# Altium schematic symbol library project.SchLib: 16 symbols
Pins are listed as number, name and electrical type; pins without a type are passive.

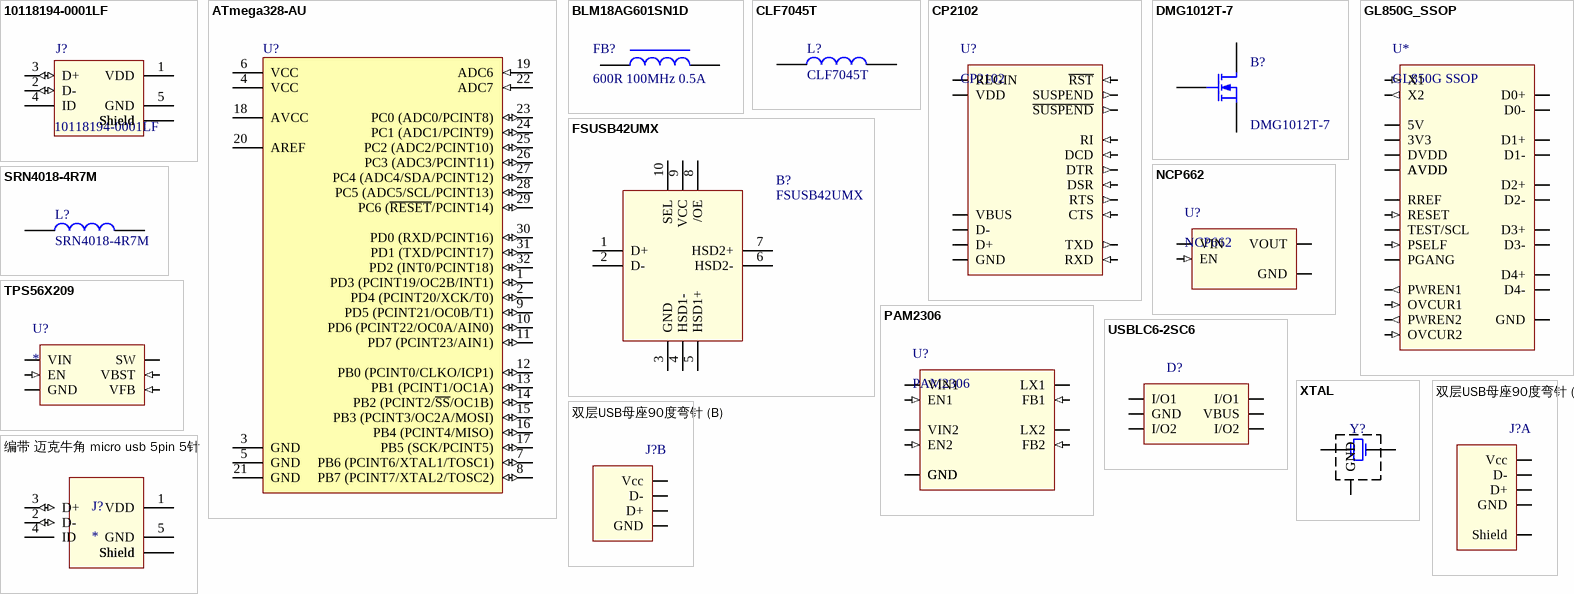
[diagram p0: symbols 10118194-0001LF to 编带 迈克牛角 micro usb 5pin 5针]

## 10118194-0001LF
designator J?
Conn Micro USB Type B RCP 5 POS 0.65mm Solder RA SMD 5 Terminal 1 Port T/R; MF: FCI; RS: 714-2347; Availability: Good; Price: 0.23 USD; MP: 10118194-0001LF; Package: DIP-4 FCI; Value: *
footprint 10103594-0001LF (Amphenol FCI Right Angle SMT Type B Version 2.0 Micro USB Connector Socket, 100 V ac, 1.8A)
pins: 1 VDD (power), 2 D- (io), 3 D+ (io), 4 ID, 5 GND (power), 6 Shield (power), 7 Shield (power), 8 Shield (power), 9 Shield (power)

## ATmega328-AU
designator U?
8-bit AVR Microcontroller, 32KB Flash, 1KB EEPROM, 2KB SRAM, 32-pin TQFP, Industrial Grade (-40°C to 85°C); Published: 1-Apr-2010; DatasheetVersion: revA, Jan-2010; PackageVersion: revB, Oct-2001; PackageReference: 32A; Publisher: Altium Limited; PackageDescription: 32-Lead, 7x7x1.0 mm Body, 0.8mm Lead Pitch, Thin Profile Plastic Quad Flat Package (TQFP); Supplier 1: Digi-Key; Supplier Part Number 1: ATMEGA328-AU-ND; Supplier 2: Mouser; Supplier Part Number 2: 556-ATMEGA328-AU; Code_JEDEC: MS-026-ABA; ComponentLink1Description: Manufacturer Link; ComponentLink1URL: http://www.atmel.com/products/avr/default.asp?; ComponentLink2Description: ATmega48A/48PA/88A/88PA/168A/168PA/328/328P Datasheet; ComponentLink2URL: http://www.atmel.com/dyn/resources/prod_documents/8271.pdf; ComponentLink3Description: ATmega48A/48PA/88A/88PA/168A/168PA/328/328P Summary; ComponentLink3URL: http://www.atmel.com/dyn/resources/prod_documents/8271S.pdf; ComponentLink4Description: Atmel.com Home; ComponentLink4URL: http://www.atmel.com
footprint 32A_N (Thin QFP, 32-Leads, Body 7x7mm, Pitch 0.8mm, IPC Medium Density)
footprint 32A_L (Thin QFP, 32-Leads, Body 7x7mm, Pitch 0.8mm, IPC High Density)
footprint 32A_M (Thin QFP, 32-Leads, Body 7x7mm, Pitch 0.8mm, IPC Low Density)
pins: 1 PD3 (PCINT19/OC2B/INT1) (io), 2 PD4 (PCINT20/XCK/T0) (io), 3 GND (power), 4 VCC (power), 5 GND (power), 6 VCC (power), 7 PB6 (PCINT6/XTAL1/TOSC1) (io), 8 PB7 (PCINT7/XTAL2/TOSC2) (io), 9 PD5 (PCINT21/OC0B/T1) (io), 10 PD6 (PCINT22/OC0A/AIN0) (io), 11 PD7 (PCINT23/AIN1) (io), 12 PB0 (PCINT0/CLKO/ICP1) (io), 13 PB1 (PCINT1/OC1A) (io), 14 PB2 (PCINT2/~{SS}/OC1B) (io), 15 PB3 (PCINT3/OC2A/MOSI) (io), 16 PB4 (PCINT4/MISO) (io), 17 PB5 (SCK/PCINT5) (io), 18 AVCC (power), 19 ADC6 (in), 20 AREF, 21 GND (power), 22 ADC7 (in), 23 PC0 (ADC0/PCINT8) (io), 24 PC1 (ADC1/PCINT9) (io), 25 PC2 (ADC2/PCINT10) (io), 26 PC3 (ADC3/PCINT11) (io), 27 PC4 (ADC4/SDA/PCINT12) (io), 28 PC5 (ADC5/SCL/PCINT13) (io), 29 PC6 (~{RESET}/PCINT14) (io), 30 PD0 (RXD/PCINT16) (io), 31 PD1 (TXD/PCINT17) (io), 32 PD2 (INT0/PCINT18) (io)

## BLM18AG601SN1D
designator FB?, comment 600R 100MHz 0.5A
Murata Ferrite Bead 600Ω impedance at 100 MHz; RS: 724-1299
footprint 1608[0603] (Chip Capacitor, Body 1.6x0.8mm, IPC High Density)
pins: 1, 2

## CLF7045T
designator L?
Shielded Wire-wound SMD Inductor with a Ferrite Core, 3.3 μH ±30% Wire-Wound 5A Idc; Manufacturer_Name: Bourns; Manufacturer_Part_Number: SRN4018-4R7M; Geometry.Height: mm; Supplier_Name: RS; RS Part Number: 792-4010; Allied_Number: *; Other Part Number: *; Datasheet Link: https://componentsearchengine.com/Datasheets/2/SRN4018-4R7M.pdf; 3D Package: *
footprint CLF7045T
pins: 1, 2

## CP2102
designator U?
footprint QFN-28
pins: 1 DCD (in), 2 RI (in), 3 GND (power), 4 D+ (io), 5 D- (io), 6 VDD (power), 7 REGIN (power), 8 VBUS (power), 9 ~{RST} (in), 11 ~{SUSPEND} (out), 12 SUSPEND (out), 23 CTS (in), 24 RTS (out), 25 RXD (in), 26 TXD (out), 27 DSR (in), 28 DTR (out)

## DMG1012T-7
designator B?
MOSFET N-Channel 20V 0.63A SOT523 Diodes Inc DMG1012T-7 N-channel MOSFET Transistor, 0.63 A, 20 V, 3-Pin SOT-523; Manufacturer_Name: Diodes Inc.; Geometry.Height: 0.8mm; Supplier_Name: RS; RS Part Number: 7514064; Manufacturer_Part_Number: DMG1012T-7; Allied_Number: *; Other Part Number: *; Datasheet Link: https://www.diodes.com/assets/Datasheets/ds31783.pdf; 3D Package: *
footprint SOT50P160X80-3N
pins: 1 G, 2 S, 3 D

## FSUSB42UMX
designator B?
IC, Fairchild, FSUSB42UMX Fairchild Semiconductor FSUSB42UMX, Analogue Switch Single DPDT 480Mbit/s, 3  4.4 V, 10-Pin UMLP; Geometry.Height: 0.55mm; Supplier_Name: RS; RS Part Number: 8076092; Manufacturer_Name: Fairchild Semiconductor; Manufacturer_Part_Number: FSUSB42UMX; Allied_Number: *; Other Part Number: *; Datasheet Link: https://www.fairchildsemi.com/datasheets/FS/FSUSB42.pdf; 3D Package: *
footprint QFN40P140X180X55-10N
pins: 1 D+, 2 D-, 3 GND, 4 HSD1-, 5 HSD1+, 6 HSD2-, 7 HSD2+, 8 /OE, 9 VCC, 10 SEL

## GL850G_SSOP
designator U*, comment GL850G SSOP
footprint SOP28
pins: 1 AVDD (power), 2 D2- (io), 3 D2+ (io), 4 RREF (io), 5 AVDD (power), 6 X1 (in), 7 X2 (out), 8 D3- (io), 9 D3+ (io), 10 AVDD (power), 11 D4- (io), 12 D4+ (io), 13 RESET (in) "5V Tolerant", 14 TEST/SCL (io), 15 GND (power), 16 DVDD (power), 17 PSELF (in) "5V Tolerant", 18 PGANG (io), 19 OVCUR2 (in) "5V Tolerant", 20 PWREN2 (out), 21 OVCUR1 (in) "5V Tolerant", 22 PWREN1 (out), 23 5V (power) "5V-to-3.3V regulator Vin", 24 3V3 (power) "5V-to-3.3V regulator Vout", 25 D0- (io), 26 D0+ (io), 27 D1- (io), 28 D1+ (io)

## NCP662
designator U?
footprint SRN4018
pins: 1 GND (power), 2 VIN (power), 3 VOUT (power), 4 EN (in)

## PAM2306
designator U?
footprint WDFN-12
pins: 1 VIN2 (power), 2 LX2 (power), 3 GND (power), 4 FB1 (in), 6 EN1 (in), 7 VIN1 (power), 8 LX1 (power), 9 GND (power), 10 FB2 (in), 12 EN2 (in), PAD GND (power)

## SRN4018-4R7M
designator L?
Inductor SMD 4x4 semi-shielded 4,7uH Bourns SRN4018 Series Shielded Wire-wound SMD Inductor with a Ferrite Core, 4.7 H 20% Wire-Wound 1.9A rms Idc; Geometry.Height: mm; Supplier_Name: RS; RS Part Number: 7729714; Manufacturer_Name: Bourns; Manufacturer_Part_Number: SRN4018-4R7M; Allied_Number: *; Other Part Number: *; Datasheet Link: https://componentsearchengine.com/Datasheets/2/SRN4018-4R7M.pdf; 3D Package: *
footprint SRN4018
pins: 1, 2

## TPS56X209
designator U?
4.5V to 17 V Input, 2-A, 3-A Synchronous Step-Down Voltage Regulator
footprint SOP6
pins: 1 GND (power), 2 SW (power), 3 VIN (power), 4 VFB (in), 5 EN (in), 6 VBST (in)

## USBLC6-2SC6
designator D?  (value not drawn)
STMicroelectronics USBLC6-2SC6, Dual Uni-Directional TVS Diode Array, 6-Pin SOT-23
footprint SOT23-6L
pins: 1 I/O1 (io), 2 GND (power), 3 I/O2 (io), 3 I/O1 (io), 4 I/O2 (io), 5 VBUS (power)

## XTAL
designator Y?
Crystal Oscillator; Published: 8-Jun-2000; LatestRevisionDate: 17-Jul-2002; LatestRevisionNote: Re-released for DXP Platform.; PackageReference: R38; Publisher: Altium Limited; PackageDescription: Crystal, Thru-Hole; 2 Leads; Body 3.1 x 8.2 mm (Dia.xH)
footprint 3225 (3225 4P SMD crystal layout)
pins: 1 OSC1, 2 GND (power), 3 OSC2, 4 GND (power)

## 双层USB母座90度弯针
designator J?, comment USB-A  (value not drawn)
https://detail.tmall.com/item.htm?id=41230755573
footprint generic stacked USB A
part A pins: 1 Vcc (power), 2 D- (io), 3 D+ (io), 4 GND (power), 9 Shield (power), 10 Shield (power), 11 Shield (power), 12 Shield (power)
part B pins: 5 Vcc (power), 6 D- (io), 7 D+ (io), 8 GND (power)

## 编带 迈克牛角 micro usb 5pin 5针
designator J?
https://detail.tmall.com/item.htm?id=41230755573
footprint generic TH microusb (https://detail.tmall.com/item.htm?id=41230755573)
pins: 1 VDD (power), 2 D- (io), 3 D+ (io), 4 ID, 5 GND (power), 6 Shield (power), 7 Shield (power), 8 Shield (power), 9 Shield (power)